# Altium footprint library Ferrite Bead.PcbLib: 1 footprints
Each footprint in its own frame and in the unit in brackets; x right, y up, seen from the top. Pads: shape width x height; smd on the part's side, far side on the other; paste and mask are expansions set on the pad; w line width, h text height; cw(c..) or ccw(c..) is an arc to the next point about the centre after c.
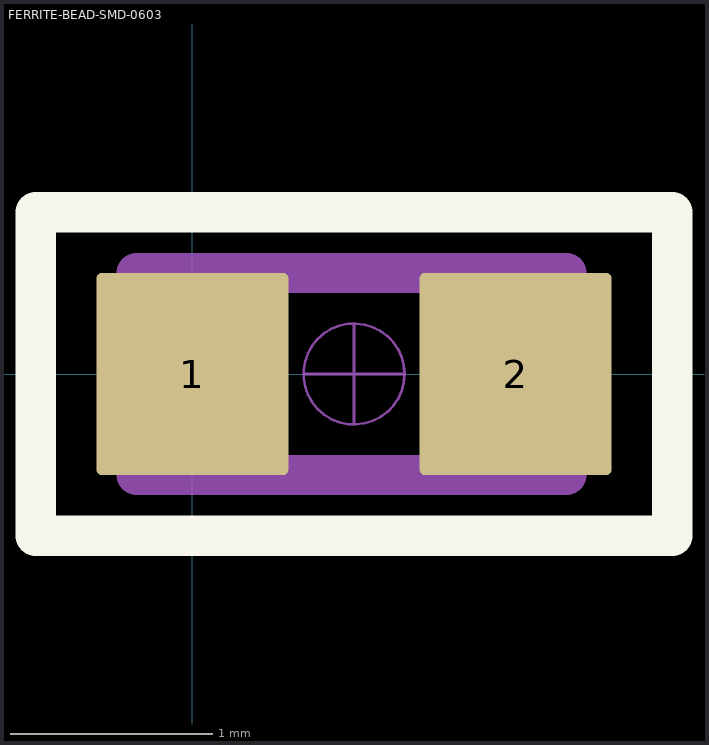
[diagram p0: the footprint, top view; thin cyan lines are the x and y axes]

## FERRITE-BEAD-SMD-0603 [mm] "Ferrite Bead SMD 0603 (Metric 1608)"
height 0.8
pads (2):
  rrect5% 0.95x1 smd mask+0.05: 1(0,0) 2(1.6,0)
Top Overlay:
  lines w0.2: -0.775,-0.8 -0.775,0.8 2.375,0.8 2.375,-0.8 -0.775,-0.8
Top Component Outline:
  lines w0.2: -0.275,-0.5 1.85,-0.5 1.85,0.5 -0.275,0.5 -0.275,-0.5
  text "'.Comment'" at -1.426,-0.577 h1
Top Courtyard:
  lines w0.05: -0.75,-0.75 -0.75,0.75 2.35,0.75 2.35,-0.75 -0.75,-0.75
Top Component Center:
  circle w0.012: c0.8,0 r0.25
  lines w0.012: 0.55,0 0.8,0 ; 0.8,-0.25 0.8,0 ; 0.8,0.25 0.8,0 ; 1.05,0 0.8,0
Top Designator:
  text "'.Designator'" at -1.642,-0.224 h1
Top Assembly:
  lines w0.2: -0.275,-0.5 -0.275,0.5 1.85,0.5 1.85,-0.5 -0.275,-0.5
  text "'.Designator'" at -1.642,-0.224 h1
3D body "BLM18KG471BH1D.stp": height 0.8, standoff 0, extent 0,-0.475 1.6,0.475